# Altium integrated library KX-327.IntLib: 1 symbol
Pins are listed as number, name and electrical type; pins without a type are passive.

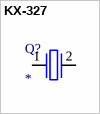
[diagram p0: symbol KX-327]

## KX-327
designator Q?
Class: Quartz resonators; ESKD: KX-327 Geyer или аналог; Value: 32768Hz; Package: *; Creator: Pavel_R
footprint KX-327
pins: 1, 2